# EAGLE library part CON-AMP-MT_L11P (library SchemaRobotV1.0)
AMP MT CONNECTOR
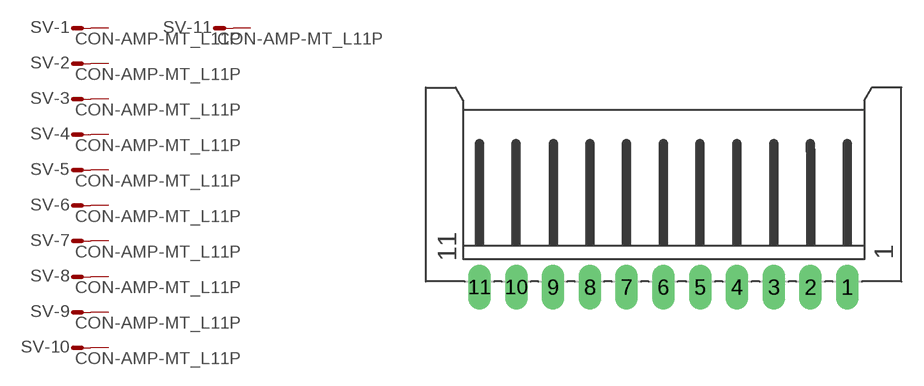
[diagram p2: symbol with the pads of CON-AMP-MT_L11P; footprint CON-AMP-MT_L11P]

Designator prefix SV; gates -1=CON-AMP-MT_M -2=CON-AMP-MT_M -3=CON-AMP-MT_M -4=CON-AMP-MT_M -5=CON-AMP-MT_M -6=CON-AMP-MT_M -7=CON-AMP-MT_M -8=CON-AMP-MT_M -9=CON-AMP-MT_M -10=CON-AMP-MT_M -11=CON-AMP-MT_M

## CON-AMP-MT_L11P (OC_FARNELL: unknown; OC_NEWARK: unknown)  [CON-AMP-MT_L11P]
1  -1:S  pas
2  -2:S  pas
3  -3:S  pas
4  -4:S  pas
5  -5:S  pas
6  -6:S  pas
7  -7:S  pas
8  -8:S  pas
9  -9:S  pas
10  -10:S  pas
11  -11:S  pas

## Footprint CON-AMP-MT_L11P (pad centres in mm)
AMP MT CONNECTOR
drill 1.016 long: 1 12.5,-6.25; 2 10,-6.25; 3 7.5,-6.25; 4 5,-6.25; 5 2.5,-6.25; 6 0,-6.25; 7 -2.5,-6.25; 8 -5,-6.25; 9 -7.5,-6.25; 10 -10,-6.25; 11 -12.5,-6.25